# Altium footprint library Pad.PcbLib: 42 footprints (part 2 of 3)
Each footprint in its own frame and in the unit in brackets; x right, y up, seen from the top. Pads: shape width x height; smd on the part's side, far side on the other; paste and mask are expansions set on the pad; w line width, h text height; cw(c..) or ccw(c..) is an arc to the next point about the centre after c.
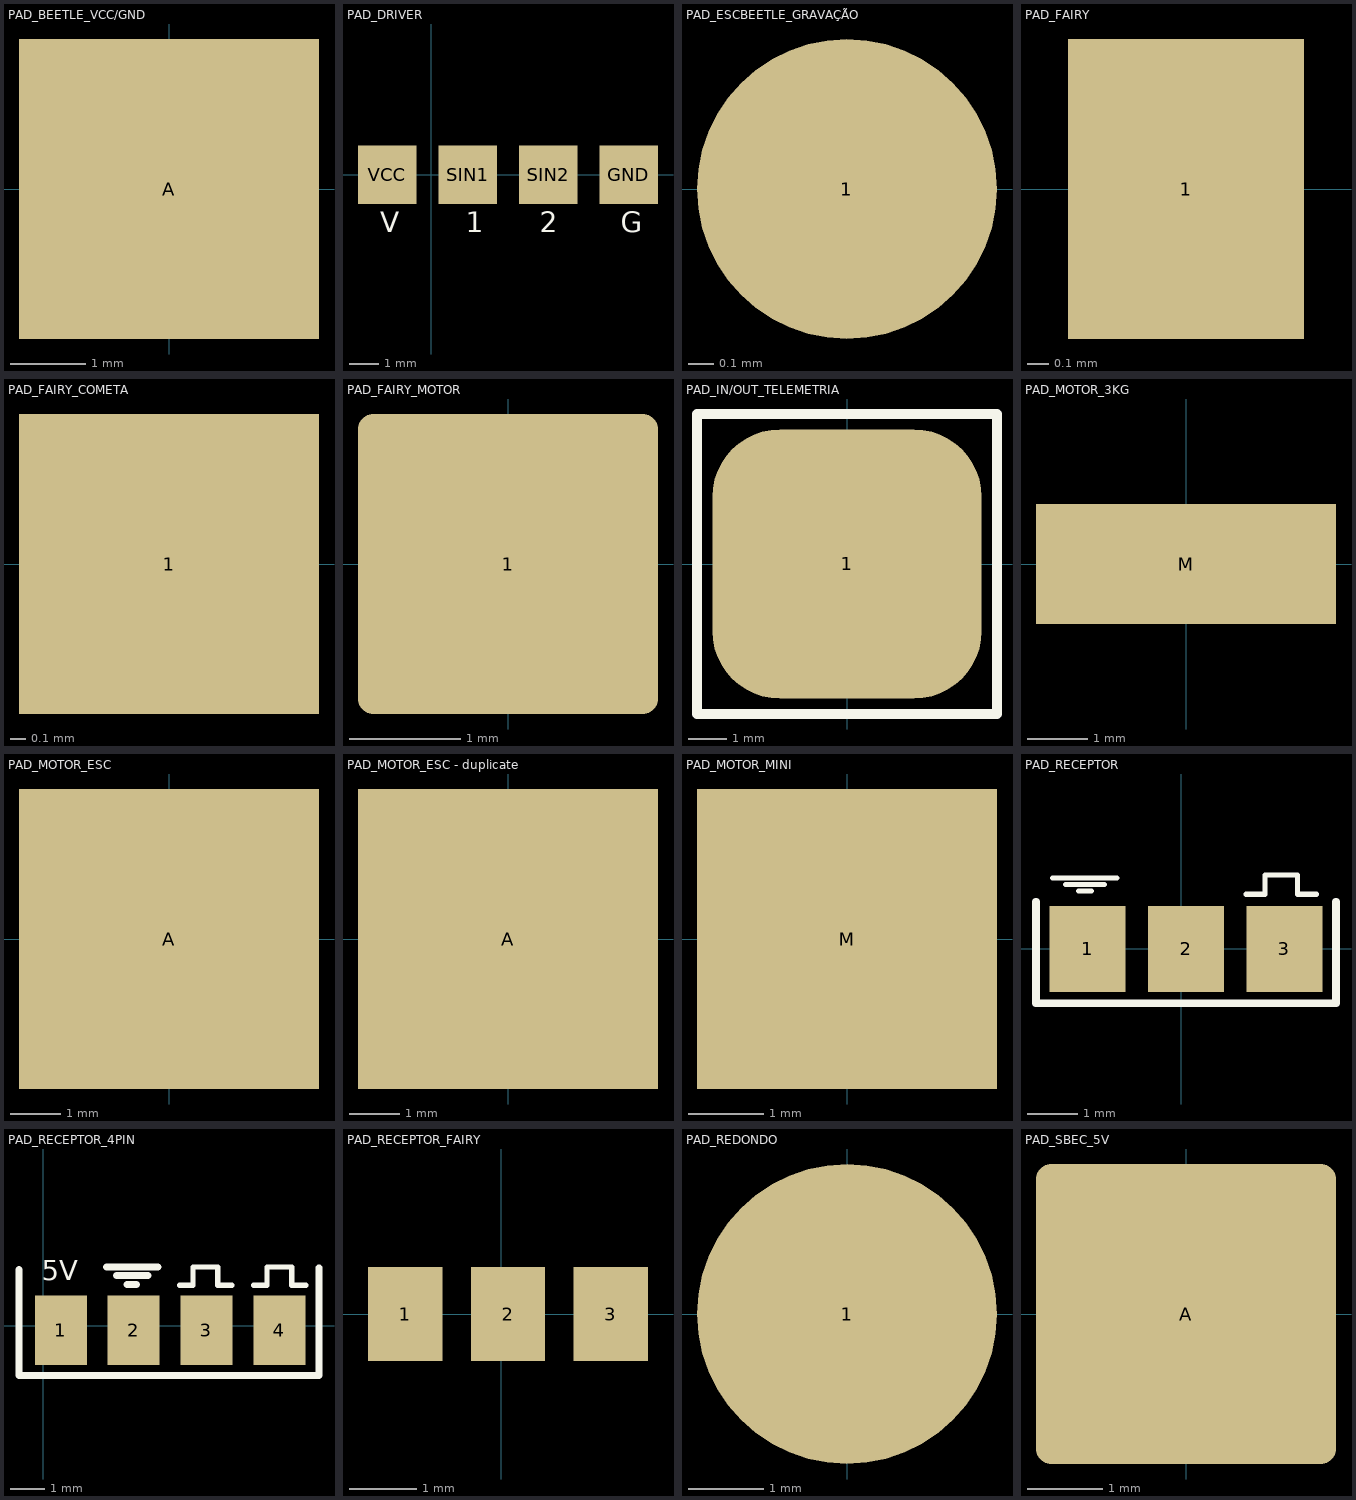
[diagram p1: the footprints below, top view; thin cyan lines are the x and y axes]

## PAD_BEETLE_VCC/GND [mm]
pads (1):
  rect 4x4 smd: A(0,0)

## PAD_DRIVER [mm]
pads (4):
  rect 2x2 smd: GND(6.75,0) SIN1(1.25,0) SIN2(4,0) VCC(-1.5,0)
Top Overlay:
  text "G" at 6.479,-1.971 h0.7
  text "2" at 3.704,-1.971 h0.7
  text "V" at -1.746,-1.971 h0.7
  text "1" at 1.179,-1.971 h0.7

## PAD_ESCBEETLE_GRAVAÇÃO [mm]
pads (1):
  round 1.2 smd: 1(-1.475,0)

## PAD_FAIRY [mm]
pads (1):
  rect 1.1x1.4 smd: 1(-1.425,0)

## PAD_FAIRY_COMETA [mm]
pads (1):
  rect 2x2 smd: 1(-1.425,0)

## PAD_FAIRY_MOTOR [mm]
pads (1):
  rrect10% 2.7x2.7 smd: 1(0,0)

## PAD_IN/OUT_TELEMETRIA [mm]
pads (1):
  rrect50% 7x7 smd: 1(0,0)
Top Overlay:
  lines w0.254: -3.9,-3.9 -3.9,3.9 3.9,3.9 3.9,-3.9 -3.9,-3.9

## PAD_MOTOR_3KG [mm]
pads (1):
  rect 5x2 smd: M(0,0)

## PAD_MOTOR_ESC [mm]
pads (1):
  rect 6x6 smd: A(0,0)

## PAD_MOTOR_ESC - duplicate [mm]
pads (1):
  rect 6x6 smd: A(0,0)

## PAD_MOTOR_MINI [mm]
pads (1):
  rect 4x4 smd: M(0,0)

## PAD_RECEPTOR [mm]
pads (3):
  rect 1.5x1.7 smd: 1(-1.854,0) 2(0.089,0) 3(2.032,0)
Top Overlay:
  lines w0.1: -2.54,1.397 -1.27,1.397 ; -2.286,1.27 -1.524,1.27 ; -2.032,1.143 -1.778,1.143 ; 1.27,1.079 1.651,1.079 1.651,1.46 2.286,1.46 2.286,1.079 2.667,1.079
  lines w0.15: -2.87,0.933 -2.87,-1.067 3.048,-1.067 3.048,0.933

## PAD_RECEPTOR_4PIN [mm]
pads (4):
  rect 1.5x2 smd: 1(0.508,-0.127) 2(2.607,-0.127) 3(4.706,-0.127) 4(6.805,-0.127)
Top Overlay:
  lines w0.15: 3.932,1.173 4.318,1.173 4.318,1.694 5.029,1.694 5.029,1.173 5.432,1.173 ; 6.066,1.173 6.452,1.173 6.452,1.694 7.163,1.694 7.163,1.173 7.566,1.173
  lines w0.2: -0.7,1.626 -0.7,-0.925 -0.7,-1.425 7.95,-1.425 7.95,1.676 ; 1.827,1.702 3.302,1.702 ; 2.115,1.448 3.015,1.448 ; 2.415,1.198 2.69,1.198
  text "5V" at -0.051,1.11 h1

## PAD_RECEPTOR_FAIRY [mm]
pads (3):
  rect 1.1x1.4 smd: 1(-1.425,0) 2(0.1,0) 3(1.625,0)

## PAD_REDONDO [mm]
pads (1):
  round 4 smd: 1(0,0)

## PAD_SBEC_5V [mm]
pads (1):
  rrect10% 4x4 smd: A(0,0)